# EAGLE library part MMC_SD_ALPS_SOCKET_MMC_SOCKET_ALPS (library daisy_mp3)
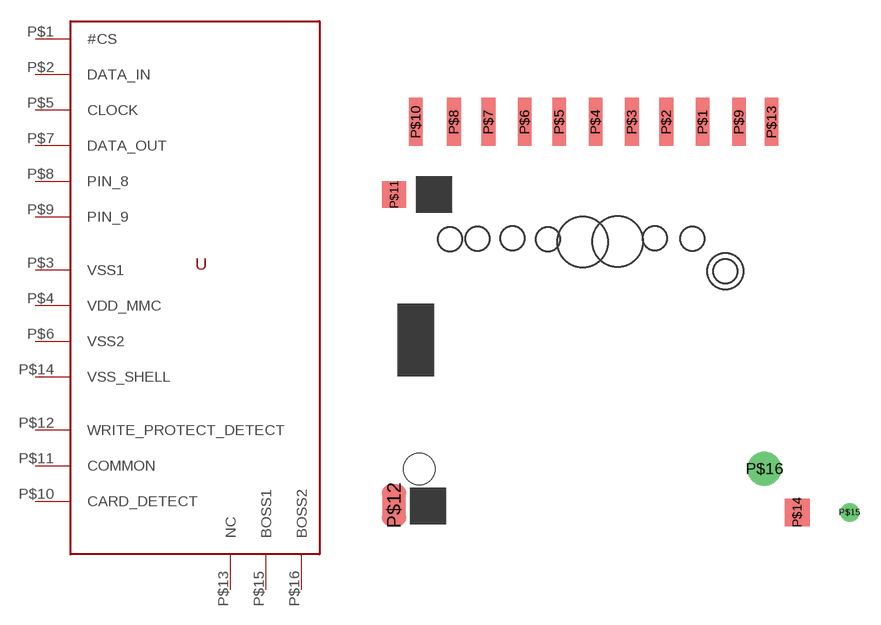
[diagram p1: symbol with the pads of MMC_SD_ALPS_SOCKET_MMC_SD_0MM_STANDOFF_ALPS; footprint MMC_SD_ALPS_SOCKET_MMC_SD_0MM_STANDOFF_ALPS]

Designator prefix -

## MMC_SD_ALPS_SOCKET_MMC_SOCKET_ALPS  [MMC_SD_ALPS_SOCKET_MMC_SD_0MM_STANDOFF_ALPS]
P$1  #CS
P$2  DATA_IN
P$3  VSS1  pwr
P$4  VDD_MMC  pwr
P$5  CLOCK
P$6  VSS2  pwr
P$7  DATA_OUT
P$8  PIN_8
P$9  PIN_9
P$10  CARD_DETECT
P$11  COMMON
P$12  WRITE_PROTECT_DETECT
P$13  NC  nc
P$14  VSS_SHELL  pwr
P$15  BOSS1  pwr
P$16  BOSS2  pwr

## Footprint MMC_SD_ALPS_SOCKET_MMC_SD_0MM_STANDOFF_ALPS (pad centres in mm)
smd 0.991 x 3.302: P$1 20.066,0; P$2 17.526,0; P$3 15.113,0; P$4 12.573,0; P$5 10.033,0; P$6 7.62,0; P$7 5.08,0; P$8 2.667,0; P$9 22.606,0; P$10 0,0; P$13 24.892,0
smd 1.702 x 1.803: P$11 -1.524,-5.08
smd 1.702 x 2.896: P$12 -1.524,-26.797
smd 1.803 x 1.905: P$14 26.67,-27.305
drill 0.8 round: P$15 30.353,-27.305
drill 1.6 pad 1.676 round: P$16 24.384,-24.257
hole 2.2 at 0.254,-24.257